# Altium schematic symbol library ESP32-D0WD-V3.SchLib: 1 symbol
Pins are listed as number, name and electrical type; pins without a type are passive.

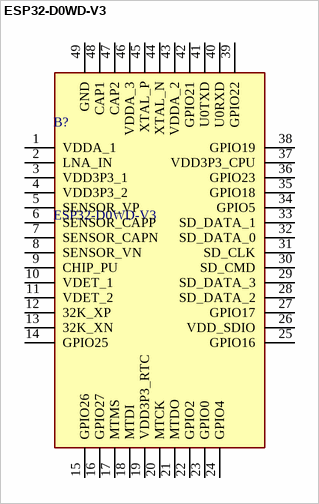
[diagram p0: symbol ESP32-D0WD-V3]

## ESP32-D0WD-V3
designator B?
WiFi Development Tools (802.11) SMD IC WiFi Dual Core BT Combo; Manufacturer_Name: Espressif Systems; Geometry.Height: 0.9mm; Manufacturer_Part_Number: ESP32-D0WD-V3; Mouser Part Number: 356-ESP32-D0WD-V3; Mouser Price/Stock: https://www.mouser.co.uk/ProductDetail/Espressif-Systems/ESP32-D0WD-V3?qs=GBLSl2AkirsI7kXw8ZPing%3D%3D; Arrow Part Number: *; Arrow Price/Stock: *; Datasheet Link: https://www.espressif.com/sites/default/files/documentation/esp32_datasheet_en.pdf
footprint QFN35P500X500X90-49N-D
pins: 1 VDDA_1, 2 LNA_IN, 3 VDD3P3_1, 4 VDD3P3_2, 5 SENSOR_VP, 6 SENSOR_CAPP, 7 SENSOR_CAPN, 8 SENSOR_VN, 9 CHIP_PU, 10 VDET_1, 11 VDET_2, 12 32K_XP, 13 32K_XN, 14 GPIO25, 15 GPIO26, 16 GPIO27, 17 MTMS, 18 MTDI, 19 VDD3P3_RTC, 20 MTCK, 21 MTDO, 22 GPIO2, 23 GPIO0, 24 GPIO4, 25 GPIO16, 26 VDD_SDIO, 27 GPIO17, 28 SD_DATA_2, 29 SD_DATA_3, 30 SD_CMD, 31 SD_CLK, 32 SD_DATA_0, 33 SD_DATA_1, 34 GPIO5, 35 GPIO18, 36 GPIO23, 37 VDD3P3_CPU, 38 GPIO19, 39 GPIO22, 40 U0RXD, 41 U0TXD, 42 GPIO21, 43 VDDA_2, 44 XTAL_N, 45 XTAL_P, 46 VDDA_3, 47 CAP2, 48 CAP1, 49 GND